# EAGLE library part SPARKFUN-IC-CONVERSION_MCP4725 (library Cosmic Pi V2)
MCP4725 DAC Microchip 12-bit I2C DAC, SOT23-6 Datasheet <https://cdn.sparkfun.com/datasheets/BreakoutBoards/MCP4725_2009.pdf> SparkFun Products SparkFun I2C DAC Breakout - MCP4725 <https://www.sparkfun.com/products/12918> (BOB-12918)
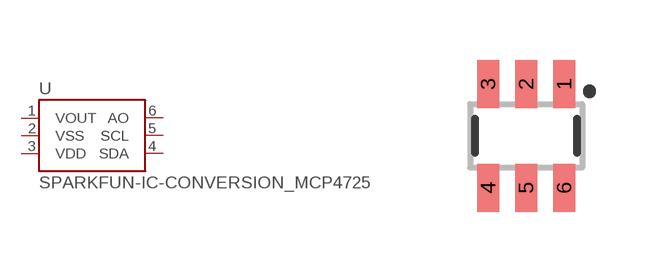
[diagram p8: symbol with the pads of SPARKFUN-IC-CONVERSION_SOT23-6; footprint SPARKFUN-IC-CONVERSION_SOT23-6]

Designator prefix U

## SPARKFUN-IC-CONVERSION_MCP4725SOT-23 (PROD_ID: IC-08886; VALUE: MCP4725)  [SPARKFUN-IC-CONVERSION_SOT23-6]
1  VOUT
2  VSS
3  VDD
4  SDA
5  SCL
6  AO

## Footprint SPARKFUN-IC-CONVERSION_SOT23-6 (pad centres in mm)
SOT23-6 Specifications: Pin count: 6 Example device(s): MCP4725
smd 0.55 x 1.2: 1 0.95,1.3; 2 0,1.3; 3 -0.95,1.3; 4 -0.95,-1.3; 5 0,-1.3; 6 0.95,-1.3